# Altium schematic symbol library NSDN_40mm.SchLib: 1 symbol
Pins are listed as number, name and electrical type; pins without a type are passive.

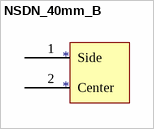
[diagram p0: symbol NSDN_40mm_B]

## NSDN_40mm_B
designator *
footprint NSDN_40mm_B
pins: 1 Side, 2 Center